# EAGLE library part MPU-6500 (library micromousev2Parts)
6-axis MotionTracking device, 512-byte FIFO, QFN - 3x3x0.9mm package Source: Datasheet <https://www.invensense.com/wp-content/uploads/2015/02/MPU-6500-Datasheet2.pdf>
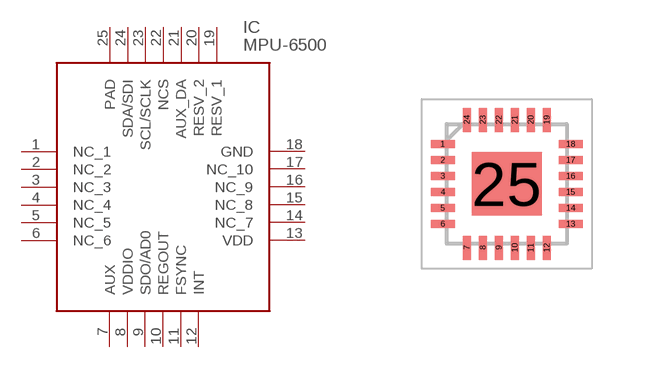
[diagram p3: symbol with the pads of QFN40P300X300X95-25N; footprint QFN40P300X300X95-25N]

Designator prefix IC

## MPU-6500 (ARROW_PART_NUMBER: MPU-6500; DESCRIPTION: 6-axis MotionTracking device, 512-byte FIFO, QFN - 3x3x0.9mm package; HEIGHT: 0.95mm; MANUFACTURER_NAME: INVENSENSE; MANUFACTURER_PART_NUMBER: MPU-6500)  [QFN40P300X300X95-25N]
1  NC_1
2  NC_2
3  NC_3
4  NC_4
5  NC_5
6  NC_6
7  AUX
8  VDDIO
9  SDO/AD0
10  REGOUT
11  FSYNC
12  INT
13  VDD
14  NC_7
15  NC_8
16  NC_9
17  NC_10
18  GND
19  RESV_1
20  RESV_2
21  AUX_DA
22  NCS
23  SCL/SCLK
24  SDA/SDI
25  PAD

## Footprint QFN40P300X300X95-25N (pad centres in mm)
MPU-6500
smd 0.6 x 0.2: 1 -1.6,1; 2 -1.6,0.6; 3 -1.6,0.2; 4 -1.6,-0.2; 5 -1.6,-0.6; 6 -1.6,-1; 13 1.6,-1; 14 1.6,-0.6; 15 1.6,-0.2; 16 1.6,0.2; 17 1.6,0.6; 18 1.6,1
smd 0.2 x 0.6: 7 -1,-1.6; 8 -0.6,-1.6; 9 -0.2,-1.6; 10 0.2,-1.6; 11 0.6,-1.6; 12 1,-1.6; 19 1,1.6; 20 0.6,1.6; 21 0.2,1.6; 22 -0.2,1.6; 23 -0.6,1.6; 24 -1,1.6
smd 1.75 x 1.59: 25 0,0